# EAGLE library part DP_DEVICES.V6_CON_HEADER_1X08 (library shield)
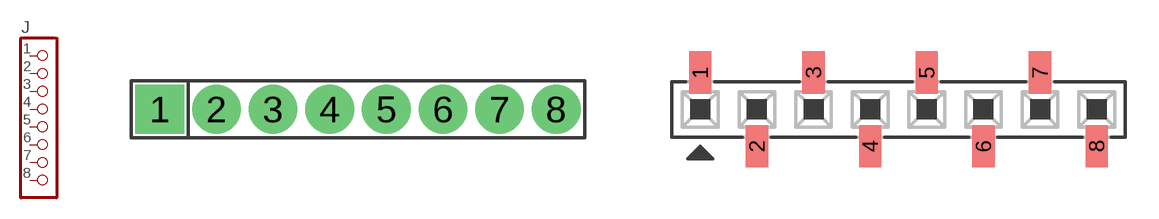
[diagram p4: symbol with the pads of DP_DEVICES.V6_M1X8; footprints DP_DEVICES.V6_M1X8, DP_DEVICES.V6_M1X8_SMD]

Designator prefix J

## DP_DEVICES.V6_CON_HEADER_1X08-PTH  [DP_DEVICES.V6_M1X8]
1  1  pas
2  2  pas
3  3  pas
4  4  pas
5  5  pas
6  6  pas
7  7  pas
8  8  pas

## DP_DEVICES.V6_CON_HEADER_1X08-SMD  [DP_DEVICES.V6_M1X8_SMD]
Pads as for DP_DEVICES.V6_M1X8

## Footprint DP_DEVICES.V6_M1X8 (pad centres in mm)
drill 1.02 pad 2.184 square: 1 -8.89,0
drill 1.02 pad 2.184: 2 -6.35,0; 3 -3.81,0; 4 -1.27,0; 5 1.27,0; 6 3.81,0; 7 6.35,0; 8 8.89,0

## Footprint DP_DEVICES.V6_M1X8_SMD (pad centres in mm)
1x08 0.1" header SMD, 1.00 x 1.90 pad size Mfr no: NPTC081KFXC-RC NPTC081KFXC-RC <http://www.digikey.com/product-detail/en/NPTC081KFXC-RC/S5600-ND/776058>
smd 1 x 1.9: 1 -8.89,1.65; 2 -6.35,-1.65; 3 -3.81,1.65; 4 -1.27,-1.65; 5 1.27,1.65; 6 3.81,-1.65; 7 6.35,1.65; 8 8.89,-1.65